# Altium schematic symbol library DDC-57471.SchLib: 1 symbol
Pins are listed as number, name and electrical type; pins without a type are passive.

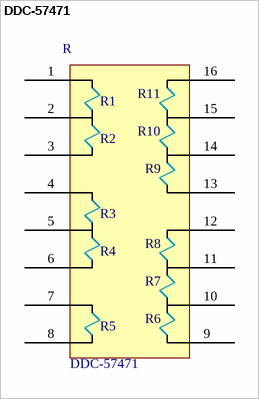
[diagram p0: symbol DDC-57471]

## DDC-57471
designator R  value DDC-57471  (hidden comment: *)
Manufacturer: DDC; Manufacturer Code: DDC-57471; Unit Price: 62,00 $
footprint DDC-57471 (Footprint not found)
pins: 1 0, 2 0, 3 0, 4 0, 5 0, 6 0, 7 0, 8 0, 9 0, 10 0, 11 0, 12 0, 13 0, 14 0, 15 0, 16 0
text: R11; R1; R10; R2; R9; R3; R8; R4; R7; R6; R5